# EAGLE library part CCU2 (library andereBauteile)
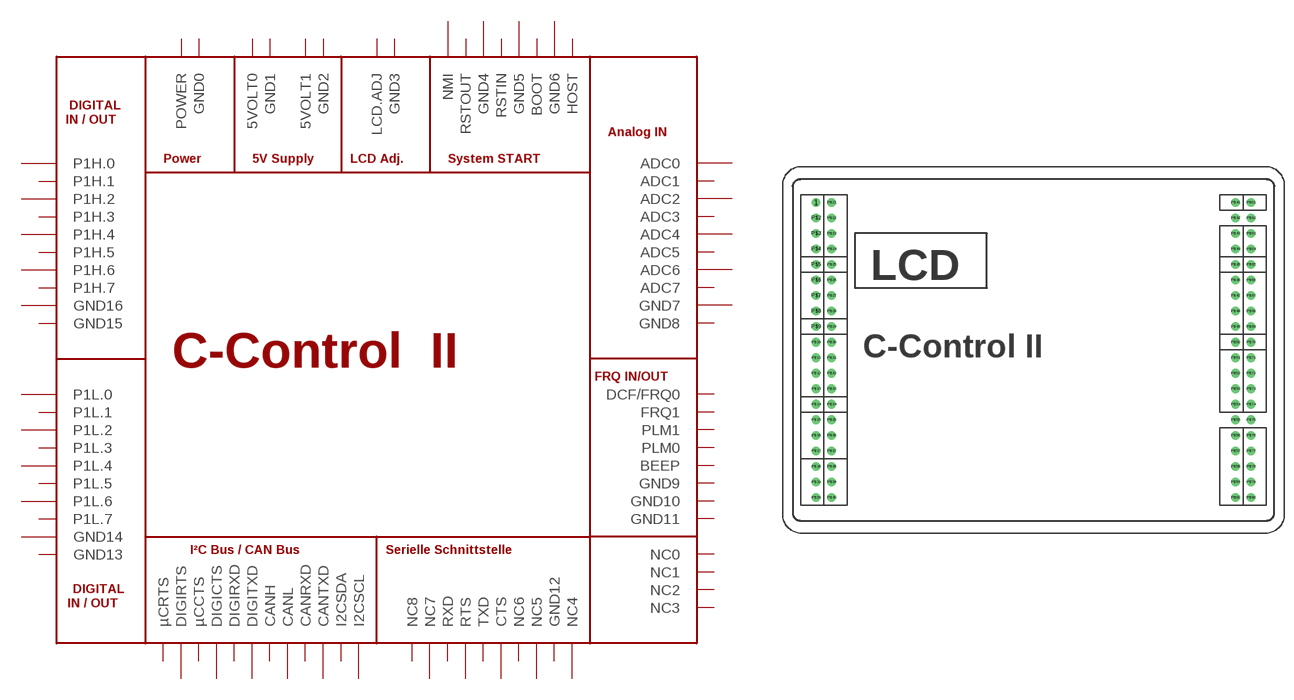
[diagram p0: symbol with the pads of CCU2; footprint CCU2]

Designator prefix IC

## CCU2CCU2  [CCU2]
1  P1H.0
P$2  P1H.2
P$3  P1H.4
P$4  P1H.6
P$5  GND16  sup
P$6  GND9  sup
P$7  BEEP  out
P$8  FRQ1  out
P$9  GND10  sup
P$10  ADC0  in
P$11  ADC2  in
P$12  ADC4  in
P$13  ADC6  in
P$14  GND7  sup
P$15  I2CSCL
P$16  CANTXD
P$17  CANL
P$18  DIGITXD
P$19  DIGICTS
P$20  DIGIRTS
P$21  P1H.1
P$22  P1H.3
P$23  P1H.5
P$24  P1H.7
P$25  GND15  sup
P$26  PLM0  out
P$27  PLM1  out
P$28  DCF/FRQ0  out
P$29  GND11  sup
P$30  ADC1  in
P$31  ADC3  in
P$32  ADC5  in
P$33  ADC7  in
P$34  GND8  sup
P$35  I2CSDA
P$36  CANRXD
P$37  CANH
P$38  DIGIRXD
P$39  µCCTS
P$40  µCRTS
P$41  POWER  pwr
P$42  NC0  nc
P$43  5VOLT0  pwr
P$44  5VOLT1  pwr
P$45  LCD.ADJ  in
P$46  P1L.7
P$47  P1L.5
P$48  P1L.3
P$49  P1L.1
P$50  GND14  sup
P$51  RSTOUT  out
P$52  RSTIN  in
P$53  BOOT  in
P$54  HOST  in
P$55  NC1  nc
P$56  GND12  sup
P$57  NC6  nc
P$58  TXD
P$59  RXD
P$60  NC8  nc
P$61  GND0  sup
P$62  NC2  nc
P$63  GND1  sup
P$64  GND2  sup
P$65  GND3  sup
P$66  P1L.6
P$67  P1L.4
P$68  P1L.2
P$69  P1L.0
P$70  GND13  sup
P$71  NMI  in
P$72  GND4  sup
P$73  GND5  sup
P$74  GND6  sup
P$75  NC3  nc
P$76  NC4  nc
P$77  NC5  nc
P$78  CTS
P$79  RTS
P$80  NC7  nc

## Footprint CCU2 (pad centres in mm)
C-Control Unit II , Conrad Elektronik
drill 0.813 pad 1.422 round: 1 -35.56,24.13; P$2 -35.56,21.59; P$3 -35.56,19.05; P$4 -35.56,16.51; P$5 -35.56,13.97; P$6 -35.56,11.43; P$7 -35.56,8.89; P$8 -35.56,6.35; P$9 -35.56,3.81; P$10 -35.56,1.27; P$11 -35.56,-1.27; P$12 -35.56,-3.81; P$13 -35.56,-6.35; P$14 -35.56,-8.89; P$15 -35.56,-11.43; P$16 -35.56,-13.97; P$17 -35.56,-16.51; P$18 -35.56,-19.05; P$19 -35.56,-21.59; P$20 -35.56,-24.13; P$22 -33.02,21.59; P$23 -33.02,19.05; P$24 -33.02,16.51; P$25 -33.02,13.97; P$26 -33.02,11.43; P$27 -33.02,8.89; P$28 -33.02,6.35; P$29 -33.02,3.81; P$30 -33.02,1.27; P$31 -33.02,-1.27; P$32 -33.02,-3.81; P$33 -33.02,-6.35; P$34 -33.02,-8.89; P$35 -33.02,-11.43; P$36 -33.02,-13.97; P$37 -33.02,-16.51; P$38 -33.02,-19.05; P$39 -33.02,-21.59; P$40 -33.02,-24.13; P$41 33.02,24.13; P$42 33.02,21.59; P$43 33.02,19.05; P$44 33.02,16.51; P$45 33.02,13.97; P$46 33.02,11.43; P$47 33.02,8.89; P$48 33.02,6.35; P$49 33.02,3.81; P$50 33.02,1.27; P$51 33.02,-1.27; P$52 33.02,-3.81; P$53 33.02,-6.35; P$54 33.02,-8.89; P$55 33.02,-11.43; P$56 33.02,-13.97; P$57 33.02,-16.51; P$58 33.02,-19.05; P$59 33.02,-21.59; P$60 33.02,-24.13; P$61 35.56,24.13; P$62 35.56,21.59; P$63 35.56,19.05; P$64 35.56,16.51; P$65 35.56,13.97; P$66 35.56,11.43; P$67 35.56,8.89; P$68 35.56,6.35; P$69 35.56,3.81; P$70 35.56,1.27; P$71 35.56,-1.27; P$72 35.56,-3.81; P$73 35.56,-6.35; P$74 35.56,-8.89; P$75 35.56,-11.43; P$76 35.56,-13.97; P$77 35.56,-16.51; P$78 35.56,-19.05; P$79 35.56,-21.59; P$80 35.56,-24.13
drill 0.813 pad 1.422 octagon: P$21 -33.02,24.13